# Altium footprint library R_POT.PcbLib: 2 footprints
Each footprint in its own frame and in the unit in brackets; x right, y up, seen from the top. Pads: shape width x height; smd on the part's side, far side on the other; paste and mask are expansions set on the pad; w line width, h text height; cw(c..) or ccw(c..) is an arc to the next point about the centre after c.
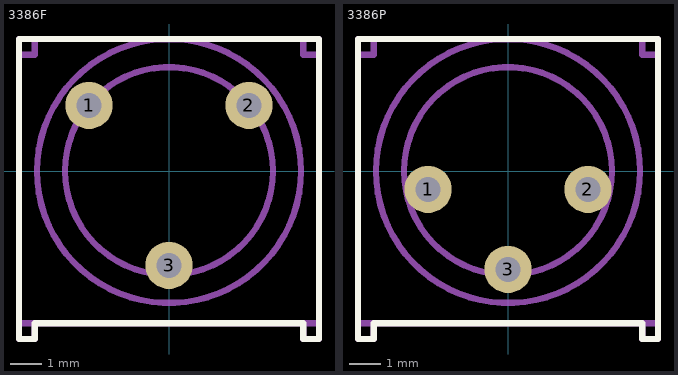
[diagram p0: the footprints below, top view; thin cyan lines are the x and y axes]

## 3386F [mm]
pads (3):
  round 1.5 hole 0.8: 1(-2.54,2.083) 2(2.54,2.083) 3(0,-2.997)
Top Overlay:
  lines w0.2: -4.763,-5.334 -4.763,-4.834 -4.763,3.691 -4.763,4.191 -4.263,4.191 4.263,4.191 4.763,4.191 4.763,3.691 4.763,-4.834 4.763,-5.334 4.263,-5.334 4.263,-4.834 -4.263,-4.834 -4.263,-5.334 -4.763,-5.334
Top Assembly:
  circle w0.2: c0,0 r4.191
  circle w0.2: c0,0 r3.3
  lines w0.2: -4.763,-4.834 -4.763,3.691 ; -4.763,-4.834 -4.263,-4.834 ; -4.763,-4.834 -4.763,-5.334 -4.263,-5.334 -4.263,-4.834 ; -4.763,3.691 -4.263,3.691 -4.263,4.191 ; -4.763,3.691 -4.763,4.191 -4.263,4.191 ; -4.263,-4.834 4.263,-4.834 ; -4.263,4.191 4.263,4.191 ; 4.263,-4.834 4.763,-4.834 ; 4.263,-4.834 4.263,-5.334 4.763,-5.334 4.763,-4.834 ; 4.263,4.191 4.763,4.191 4.763,3.691 ; 4.263,4.191 4.263,3.691 4.763,3.691 ; 4.763,-4.834 4.763,3.691
3D body: height 10.41, standoff 4.83, extent -4.191,-4.191 4.191,4.191
3D body: height 4.83, standoff 0.25, extent -4.763,-5.334 4.763,4.191
3D body: height 0.38, standoff -5.97, extent -0.255,-3.252 0.255,-2.742
3D body: height 0.38, standoff -5.97, extent 2.285,1.828 2.795,2.338
3D body: height 0.38, standoff -5.97, extent -2.795,1.828 -2.285,2.338
3D body: height 0.38, standoff 0, extent -4.763,3.691 -4.263,4.191
3D body: height 0.38, standoff 0, extent 4.263,3.691 4.763,4.191
3D body: height 0.38, standoff 0, extent 4.263,-5.334 4.763,-4.834
3D body: height 0.38, standoff 0, extent -4.763,-5.334 -4.263,-4.834
3D body: height 0.38, standoff 0, extent -4.763,3.691 -4.263,4.191
3D body: height 0.38, standoff 0, extent 4.263,3.691 4.763,4.191
3D body: height 0.38, standoff 0, extent 4.263,-5.334 4.763,-4.834
3D body: height 0.38, standoff 0, extent -4.763,-5.334 -4.263,-4.834

## 3386P [mm]
pads (3):
  round 1.5 hole 0.8: 1(-2.54,-0.584) 2(2.54,-0.584) 3(0,-3.124)
Top Overlay:
  lines w0.2: -4.763,-5.334 -4.263,-5.334 -4.263,-4.834 4.263,-4.834 4.263,-5.334 4.763,-5.334 4.763,-4.834 4.763,3.691 4.763,4.191 4.263,4.191 -4.263,4.191 -4.763,4.191 -4.763,3.691 -4.763,-4.834 -4.763,-5.334
Top Assembly:
  circle w0.2: c0,0 r3.3
  circle w0.2: c0,0 r4.191
  lines w0.2: -4.763,-4.834 -4.763,-5.334 -4.263,-5.334 -4.263,-4.834 ; -4.763,-4.834 -4.263,-4.834 ; -4.763,-4.834 -4.763,3.691 ; -4.763,3.691 -4.763,4.191 -4.263,4.191 ; -4.763,3.691 -4.263,3.691 -4.263,4.191 ; -4.263,-4.834 4.263,-4.834 ; -4.263,4.191 4.263,4.191 ; 4.263,-4.834 4.263,-5.334 4.763,-5.334 4.763,-4.834 ; 4.263,-4.834 4.763,-4.834 ; 4.263,4.191 4.263,3.691 4.763,3.691 ; 4.263,4.191 4.763,4.191 4.763,3.691 ; 4.763,-4.834 4.763,3.691
3D body: height 0.38, standoff -5.97, extent -2.795,-0.839 -2.285,-0.329
3D body: height 0.38, standoff -5.97, extent 2.285,-0.839 2.795,-0.329
3D body: height 0.38, standoff -5.97, extent -0.255,-3.379 0.255,-2.869
3D body: height 4.83, standoff 0.25, extent -4.763,-5.334 4.763,4.191
3D body: height 10.41, standoff 4.83, extent -4.191,-4.191 4.191,4.191
3D body: height 0.38, standoff 0, extent -4.763,-5.334 -4.263,-4.834
3D body: height 0.38, standoff 0, extent 4.263,-5.334 4.763,-4.834
3D body: height 0.38, standoff 0, extent 4.263,3.691 4.763,4.191
3D body: height 0.38, standoff 0, extent -4.763,3.691 -4.263,4.191
3D body: height 0.38, standoff 0, extent -4.763,-5.334 -4.263,-4.834
3D body: height 0.38, standoff 0, extent 4.263,-5.334 4.763,-4.834
3D body: height 0.38, standoff 0, extent 4.263,3.691 4.763,4.191
3D body: height 0.38, standoff 0, extent -4.763,3.691 -4.263,4.191